# Altium integrated library con-leotronics.IntLib: 93 symbols (part 1 of 4)
Pins are listed as number, name and electrical type; pins without a type are passive.

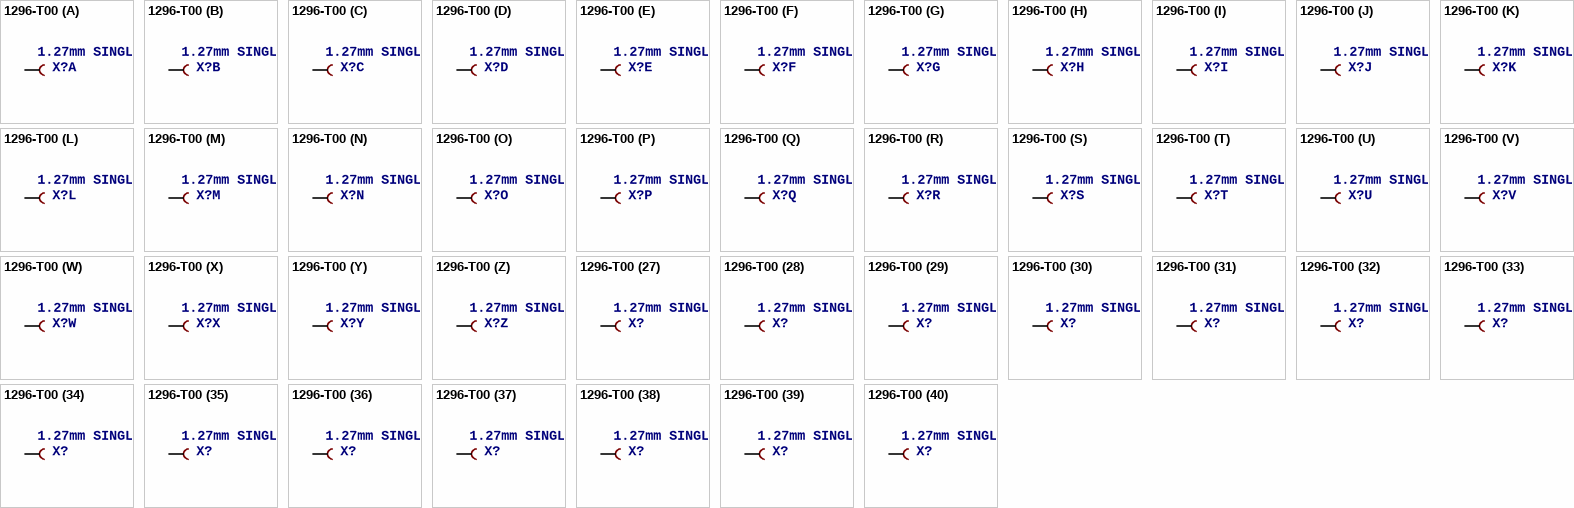
[diagram p0: symbol 1296-T00]

## 1296-T00
designator X?, comment 1.27mm SINGLE ROW FEMALE SOCKET   Source: http://www.leotronics.co.uk/Conexcon/Data%20Sheets/sec.%20A/1296ing.pdf
OC_FARNELL: unknown; OC_NEWARK: unknown
footprint 1296-100
part A pins: 1 B
part B pins: 2 B
part C pins: 3 B
part D pins: 4 B
part E pins: 5 B
part F pins: 6 B
part G pins: 7 B
part H pins: 8 B
part I pins: 9 B
part J pins: 10 B
part K pins: 11 B
part L pins: 12 B
part M pins: 13 B
part N pins: 14 B
part O pins: 15 B
part P pins: 16 B
part Q pins: 17 B
part R pins: 18 B
part S pins: 19 B
part T pins: 20 B
part U pins: 21 B
part V pins: 22 B
part W pins: 23 B
part X pins: 24 B
part Y pins: 25 B
part Z pins: 26 B
part 27 pins: 27 B
part 28 pins: 28 B
part 29 pins: 29 B
part 30 pins: 30 B
part 31 pins: 31 B
part 32 pins: 32 B
part 33 pins: 33 B
part 34 pins: 34 B
part 35 pins: 35 B
part 36 pins: 36 B
part 37 pins: 37 B
part 38 pins: 38 B
part 39 pins: 39 B
part 40 pins: 40 B
part 41 pins: 41 B
part 42 pins: 42 B
part 43 pins: 43 B
part 44 pins: 44 B
part 45 pins: 45 B
part 46 pins: 46 B
part 47 pins: 47 B
part 48 pins: 48 B
part 49 pins: 49 B
part 50 pins: 50 B
part 51 pins: 51 B
part 52 pins: 52 B
part 53 pins: 53 B
part 54 pins: 54 B
part 55 pins: 55 B
part 56 pins: 56 B
part 57 pins: 57 B
part 58 pins: 58 B
part 59 pins: 59 B
part 60 pins: 60 B
part 61 pins: 61 B
part 62 pins: 62 B
part 63 pins: 63 B
part 64 pins: 64 B
part 65 pins: 65 B
part 66 pins: 66 B
part 67 pins: 67 B
part 68 pins: 68 B
part 69 pins: 69 B
part 70 pins: 70 B
part 71 pins: 71 B
part 72 pins: 72 B
part 73 pins: 73 B
part 74 pins: 74 B
part 75 pins: 75 B
part 76 pins: 76 B
part 77 pins: 77 B
part 78 pins: 78 B
part 79 pins: 79 B
part 80 pins: 80 B
part 81 pins: 81 B
part 82 pins: 82 B
part 83 pins: 83 B
part 84 pins: 84 B
part 85 pins: 85 B
part 86 pins: 86 B
part 87 pins: 87 B
part 88 pins: 88 B
part 89 pins: 89 B
part 90 pins: 90 B
part 91 pins: 91 B
part 92 pins: 92 B
part 93 pins: 93 B
part 94 pins: 94 B
part 95 pins: 95 B
part 96 pins: 96 B
part 97 pins: 97 B
part 98 pins: 98 B
part 99 pins: 99 B
part 100 pins: 100 B

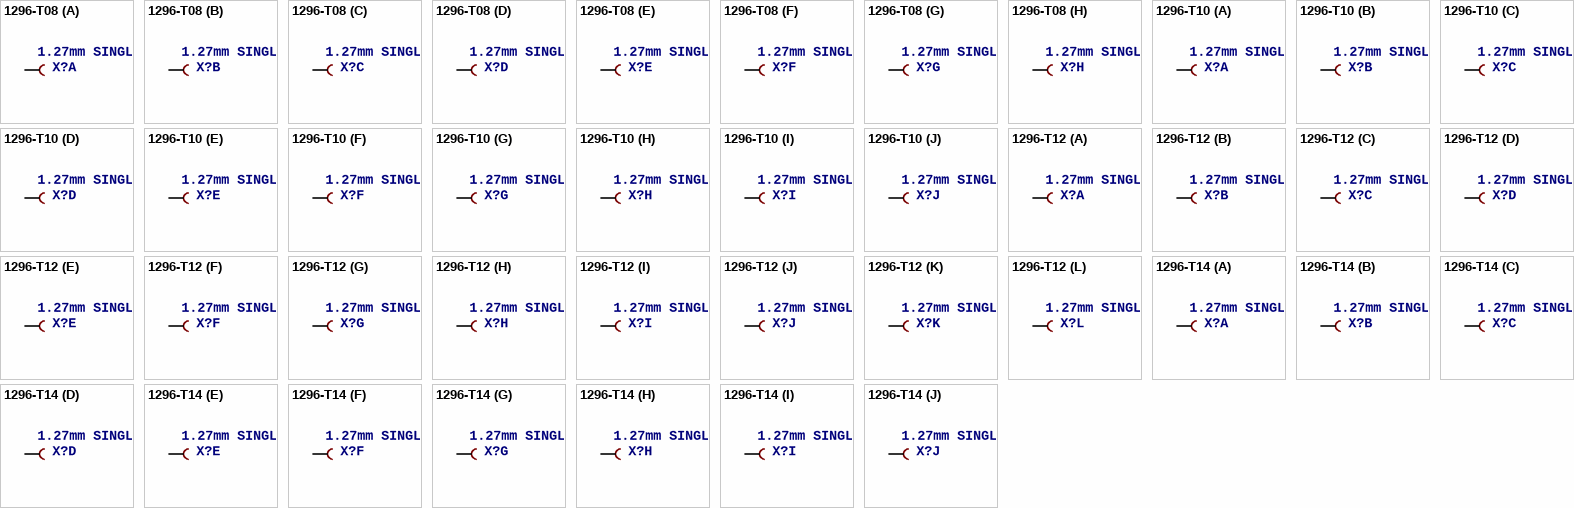
[diagram p1: symbols 1296-T08 to 1296-T14]

## 1296-T08
designator X?, comment 1.27mm SINGLE ROW FEMALE SOCKET   Source: http://www.leotronics.co.uk/Conexcon/Data%20Sheets/sec.%20A/1296ing.pdf
OC_FARNELL: unknown; OC_NEWARK: unknown
footprint 1296-08
part A pins: 1 B
part B pins: 2 B
part C pins: 3 B
part D pins: 4 B
part E pins: 5 B
part F pins: 6 B
part G pins: 7 B
part H pins: 8 B

## 1296-T10
designator X?, comment 1.27mm SINGLE ROW FEMALE SOCKET   Source: http://www.leotronics.co.uk/Conexcon/Data%20Sheets/sec.%20A/1296ing.pdf
OC_FARNELL: unknown; OC_NEWARK: unknown
footprint 1296-10
part A pins: 1 B
part B pins: 2 B
part C pins: 3 B
part D pins: 4 B
part E pins: 5 B
part F pins: 6 B
part G pins: 7 B
part H pins: 8 B
part I pins: 9 B
part J pins: 10 B

## 1296-T12
designator X?, comment 1.27mm SINGLE ROW FEMALE SOCKET   Source: http://www.leotronics.co.uk/Conexcon/Data%20Sheets/sec.%20A/1296ing.pdf
OC_FARNELL: unknown; OC_NEWARK: unknown
footprint 1296-12
part A pins: 1 B
part B pins: 2 B
part C pins: 3 B
part D pins: 4 B
part E pins: 5 B
part F pins: 6 B
part G pins: 7 B
part H pins: 8 B
part I pins: 9 B
part J pins: 10 B
part K pins: 11 B
part L pins: 12 B

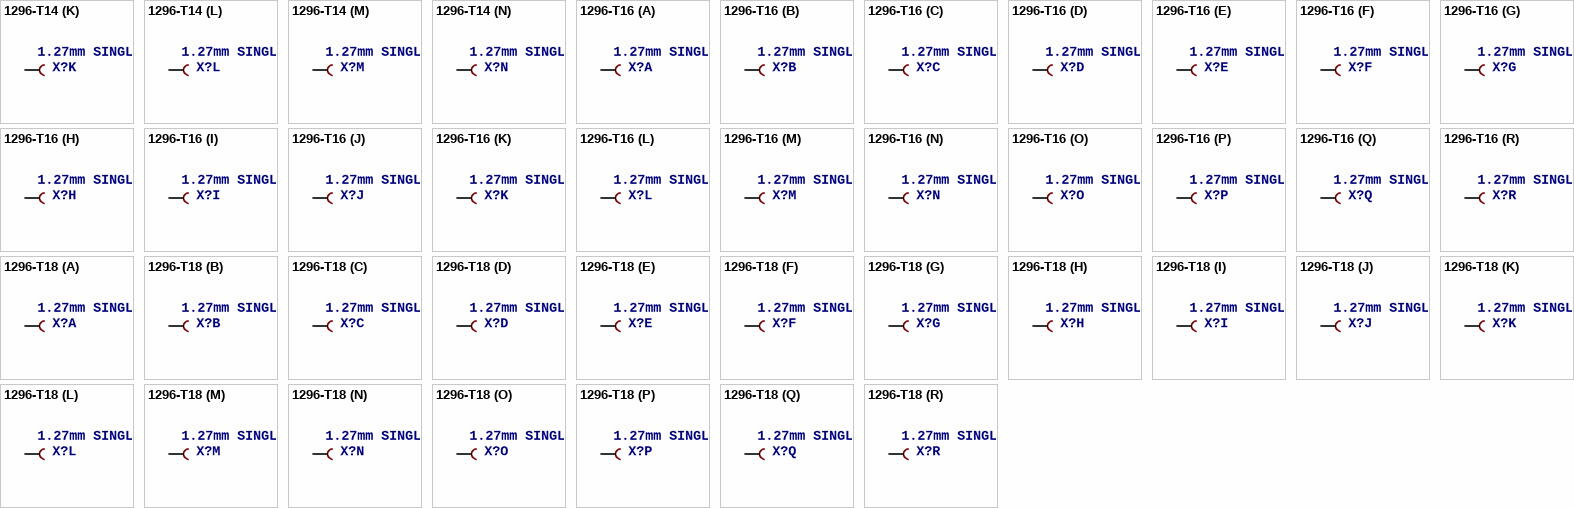
[diagram p2: symbols 1296-T14 to 1296-T18]

## 1296-T14
designator X?, comment 1.27mm SINGLE ROW FEMALE SOCKET   Source: http://www.leotronics.co.uk/Conexcon/Data%20Sheets/sec.%20A/1296ing.pdf
OC_FARNELL: unknown; OC_NEWARK: unknown
footprint 1296-14
part A pins: 1 B
part B pins: 2 B
part C pins: 3 B
part D pins: 4 B
part E pins: 5 B
part F pins: 6 B
part G pins: 7 B
part H pins: 8 B
part I pins: 9 B
part J pins: 10 B
part K pins: 11 B
part L pins: 12 B
part M pins: 13 B
part N pins: 14 B

## 1296-T16
designator X?, comment 1.27mm SINGLE ROW FEMALE SOCKET   Source: http://www.leotronics.co.uk/Conexcon/Data%20Sheets/sec.%20A/1296ing.pdf
OC_FARNELL: unknown; OC_NEWARK: unknown
footprint 1296-18
part A pins: 1 B
part B pins: 2 B
part C pins: 3 B
part D pins: 4 B
part E pins: 5 B
part F pins: 6 B
part G pins: 7 B
part H pins: 8 B
part I pins: 9 B
part J pins: 10 B
part K pins: 11 B
part L pins: 12 B
part M pins: 13 B
part N pins: 14 B
part O pins: 15 B
part P pins: 16 B
part Q pins: 17 B
part R pins: 18 B

## 1296-T18
designator X?, comment 1.27mm SINGLE ROW FEMALE SOCKET   Source: http://www.leotronics.co.uk/Conexcon/Data%20Sheets/sec.%20A/1296ing.pdf
OC_FARNELL: unknown; OC_NEWARK: unknown
footprint 1296-18
part A pins: 1 B
part B pins: 2 B
part C pins: 3 B
part D pins: 4 B
part E pins: 5 B
part F pins: 6 B
part G pins: 7 B
part H pins: 8 B
part I pins: 9 B
part J pins: 10 B
part K pins: 11 B
part L pins: 12 B
part M pins: 13 B
part N pins: 14 B
part O pins: 15 B
part P pins: 16 B
part Q pins: 17 B
part R pins: 18 B

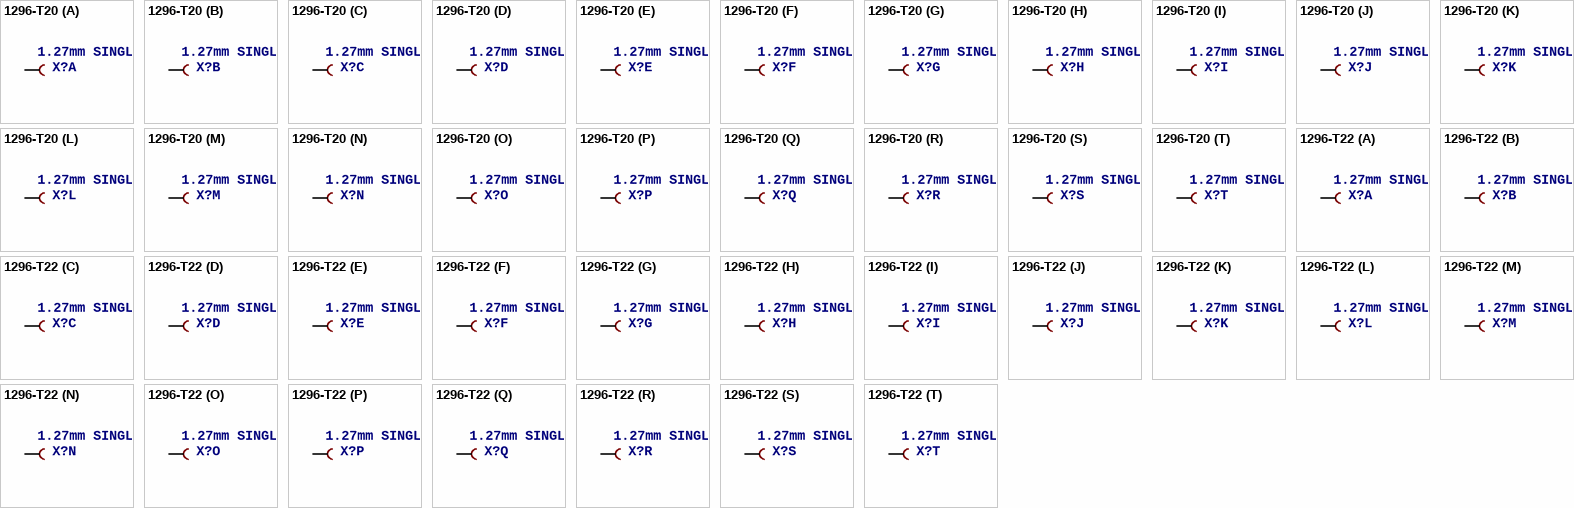
[diagram p3: symbols 1296-T20 to 1296-T22]

## 1296-T20
designator X?, comment 1.27mm SINGLE ROW FEMALE SOCKET   Source: http://www.leotronics.co.uk/Conexcon/Data%20Sheets/sec.%20A/1296ing.pdf
OC_FARNELL: unknown; OC_NEWARK: unknown
footprint 1296-20
part A pins: 1 B
part B pins: 2 B
part C pins: 3 B
part D pins: 4 B
part E pins: 5 B
part F pins: 6 B
part G pins: 7 B
part H pins: 8 B
part I pins: 9 B
part J pins: 10 B
part K pins: 11 B
part L pins: 12 B
part M pins: 13 B
part N pins: 14 B
part O pins: 15 B
part P pins: 16 B
part Q pins: 17 B
part R pins: 18 B
part S pins: 19 B
part T pins: 20 B

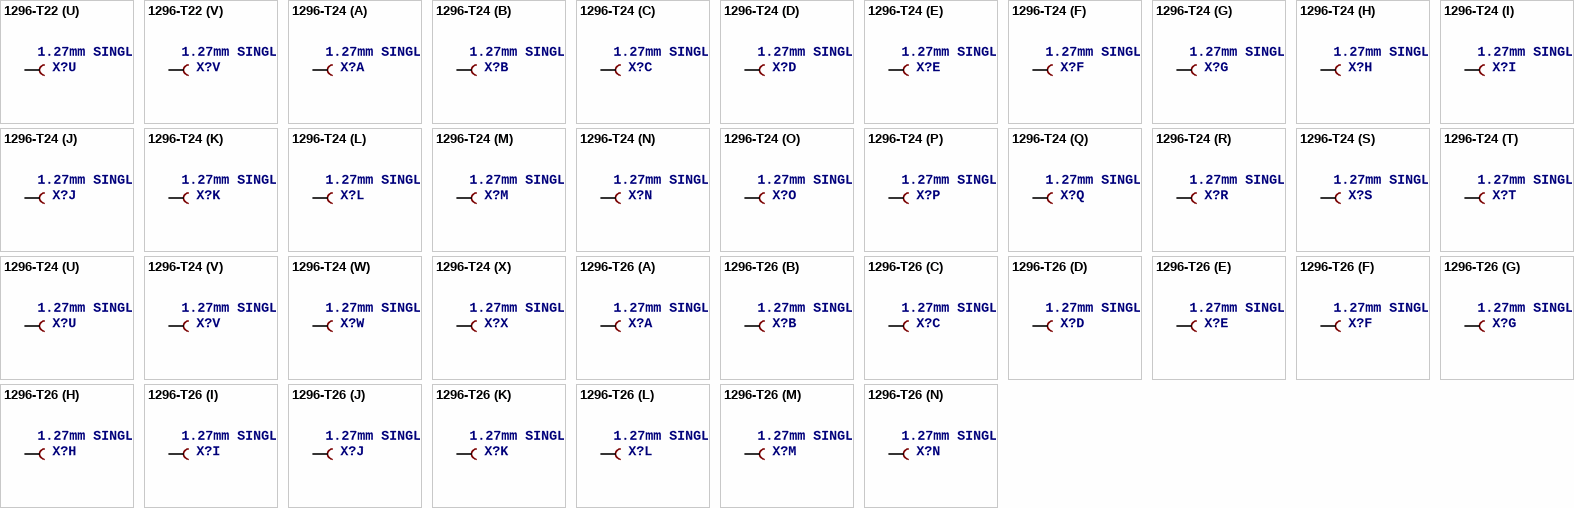
[diagram p4: symbols 1296-T22 to 1296-T26]

## 1296-T22
designator X?, comment 1.27mm SINGLE ROW FEMALE SOCKET   Source: http://www.leotronics.co.uk/Conexcon/Data%20Sheets/sec.%20A/1296ing.pdf
OC_FARNELL: unknown; OC_NEWARK: unknown
footprint 1296-22
part A pins: 1 B
part B pins: 2 B
part C pins: 3 B
part D pins: 4 B
part E pins: 5 B
part F pins: 6 B
part G pins: 7 B
part H pins: 8 B
part I pins: 9 B
part J pins: 10 B
part K pins: 11 B
part L pins: 12 B
part M pins: 13 B
part N pins: 14 B
part O pins: 15 B
part P pins: 16 B
part Q pins: 17 B
part R pins: 18 B
part S pins: 19 B
part T pins: 20 B
part U pins: 21 B
part V pins: 22 B

## 1296-T24
designator X?, comment 1.27mm SINGLE ROW FEMALE SOCKET   Source: http://www.leotronics.co.uk/Conexcon/Data%20Sheets/sec.%20A/1296ing.pdf
OC_FARNELL: unknown; OC_NEWARK: unknown
footprint 1296-24
part A pins: 1 B
part B pins: 2 B
part C pins: 3 B
part D pins: 4 B
part E pins: 5 B
part F pins: 6 B
part G pins: 7 B
part H pins: 8 B
part I pins: 9 B
part J pins: 10 B
part K pins: 11 B
part L pins: 12 B
part M pins: 13 B
part N pins: 14 B
part O pins: 15 B
part P pins: 16 B
part Q pins: 17 B
part R pins: 18 B
part S pins: 19 B
part T pins: 20 B
part U pins: 21 B
part V pins: 22 B
part W pins: 23 B
part X pins: 24 B

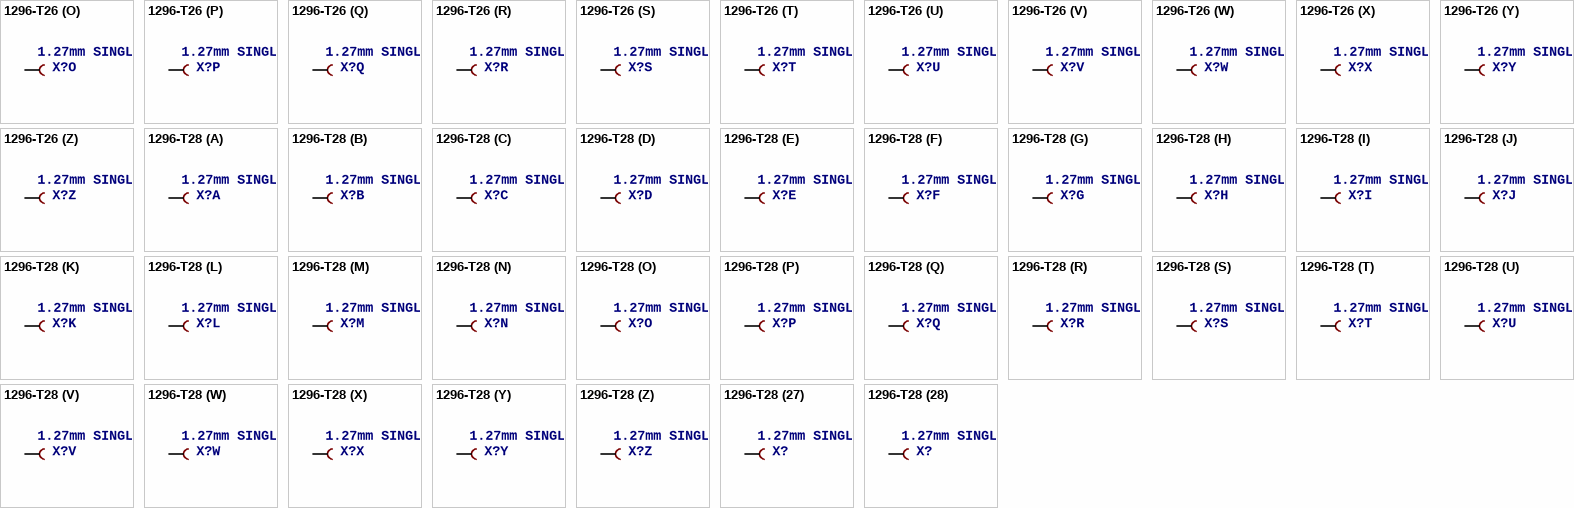
[diagram p5: symbols 1296-T26 to 1296-T28]

## 1296-T26
designator X?, comment 1.27mm SINGLE ROW FEMALE SOCKET   Source: http://www.leotronics.co.uk/Conexcon/Data%20Sheets/sec.%20A/1296ing.pdf
OC_FARNELL: unknown; OC_NEWARK: unknown
footprint 1296-26
part A pins: 1 B
part B pins: 2 B
part C pins: 3 B
part D pins: 4 B
part E pins: 5 B
part F pins: 6 B
part G pins: 7 B
part H pins: 8 B
part I pins: 9 B
part J pins: 10 B
part K pins: 11 B
part L pins: 12 B
part M pins: 13 B
part N pins: 14 B
part O pins: 15 B
part P pins: 16 B
part Q pins: 17 B
part R pins: 18 B
part S pins: 19 B
part T pins: 20 B
part U pins: 21 B
part V pins: 22 B
part W pins: 23 B
part X pins: 24 B
part Y pins: 25 B
part Z pins: 26 B

## 1296-T28
designator X?, comment 1.27mm SINGLE ROW FEMALE SOCKET   Source: http://www.leotronics.co.uk/Conexcon/Data%20Sheets/sec.%20A/1296ing.pdf
OC_FARNELL: unknown; OC_NEWARK: unknown
footprint 1296-28
part A pins: 1 B
part B pins: 2 B
part C pins: 3 B
part D pins: 4 B
part E pins: 5 B
part F pins: 6 B
part G pins: 7 B
part H pins: 8 B
part I pins: 9 B
part J pins: 10 B
part K pins: 11 B
part L pins: 12 B
part M pins: 13 B
part N pins: 14 B
part O pins: 15 B
part P pins: 16 B
part Q pins: 17 B
part R pins: 18 B
part S pins: 19 B
part T pins: 20 B
part U pins: 21 B
part V pins: 22 B
part W pins: 23 B
part X pins: 24 B
part Y pins: 25 B
part Z pins: 26 B
part 27 pins: 27 B
part 28 pins: 28 B

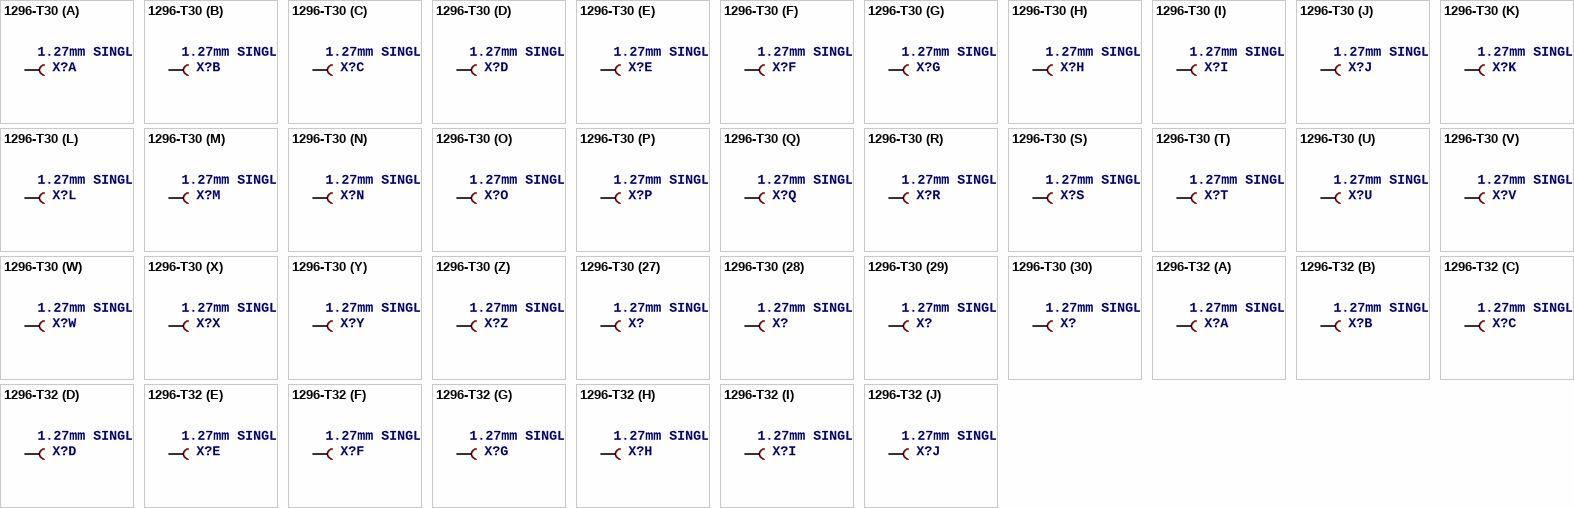
[diagram p6: symbols 1296-T30 to 1296-T32]

## 1296-T30
designator X?, comment 1.27mm SINGLE ROW FEMALE SOCKET   Source: http://www.leotronics.co.uk/Conexcon/Data%20Sheets/sec.%20A/1296ing.pdf
OC_FARNELL: unknown; OC_NEWARK: unknown
footprint 1296-30
part A pins: 1 B
part B pins: 2 B
part C pins: 3 B
part D pins: 4 B
part E pins: 5 B
part F pins: 6 B
part G pins: 7 B
part H pins: 8 B
part I pins: 9 B
part J pins: 10 B
part K pins: 11 B
part L pins: 12 B
part M pins: 13 B
part N pins: 14 B
part O pins: 15 B
part P pins: 16 B
part Q pins: 17 B
part R pins: 18 B
part S pins: 19 B
part T pins: 20 B
part U pins: 21 B
part V pins: 22 B
part W pins: 23 B
part X pins: 24 B
part Y pins: 25 B
part Z pins: 26 B
part 27 pins: 27 B
part 28 pins: 28 B
part 29 pins: 29 B
part 30 pins: 30 B

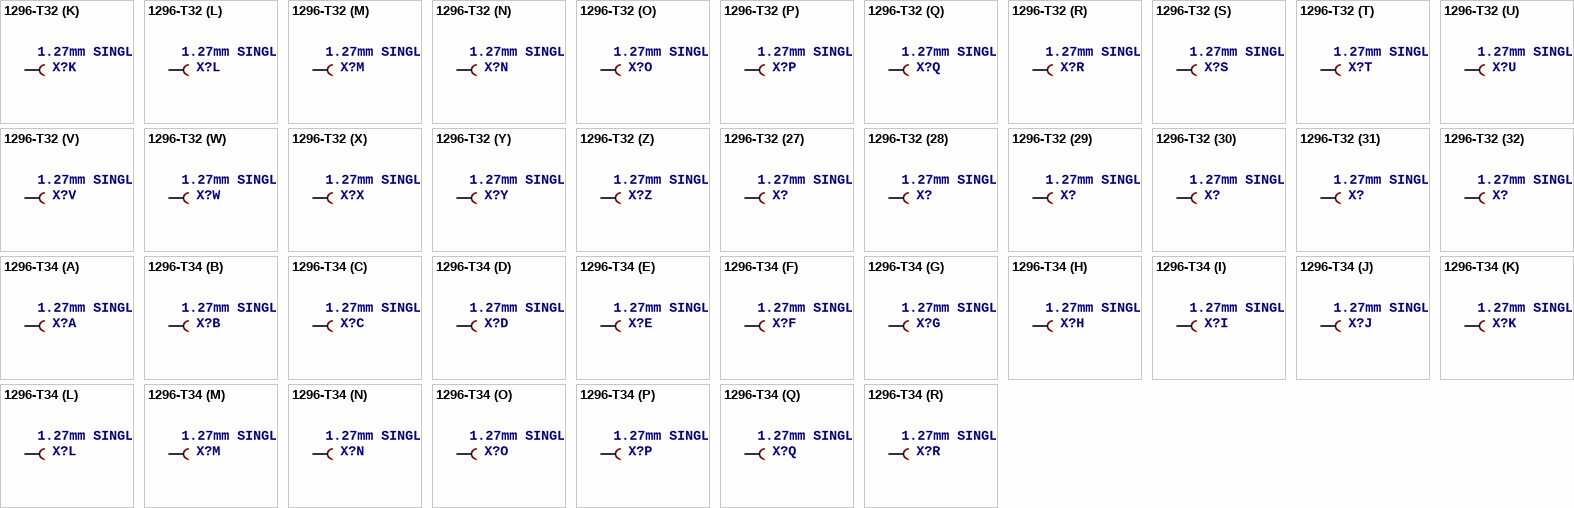
[diagram p7: symbols 1296-T32 to 1296-T34]

## 1296-T32
designator X?, comment 1.27mm SINGLE ROW FEMALE SOCKET   Source: http://www.leotronics.co.uk/Conexcon/Data%20Sheets/sec.%20A/1296ing.pdf
OC_FARNELL: unknown; OC_NEWARK: unknown
footprint 1296-32
part A pins: 1 B
part B pins: 2 B
part C pins: 3 B
part D pins: 4 B
part E pins: 5 B
part F pins: 6 B
part G pins: 7 B
part H pins: 8 B
part I pins: 9 B
part J pins: 10 B
part K pins: 11 B
part L pins: 12 B
part M pins: 13 B
part N pins: 14 B
part O pins: 15 B
part P pins: 16 B
part Q pins: 17 B
part R pins: 18 B
part S pins: 19 B
part T pins: 20 B
part U pins: 21 B
part V pins: 22 B
part W pins: 23 B
part X pins: 24 B
part Y pins: 25 B
part Z pins: 26 B
part 27 pins: 27 B
part 28 pins: 28 B
part 29 pins: 29 B
part 30 pins: 30 B
part 31 pins: 31 B
part 32 pins: 32 B

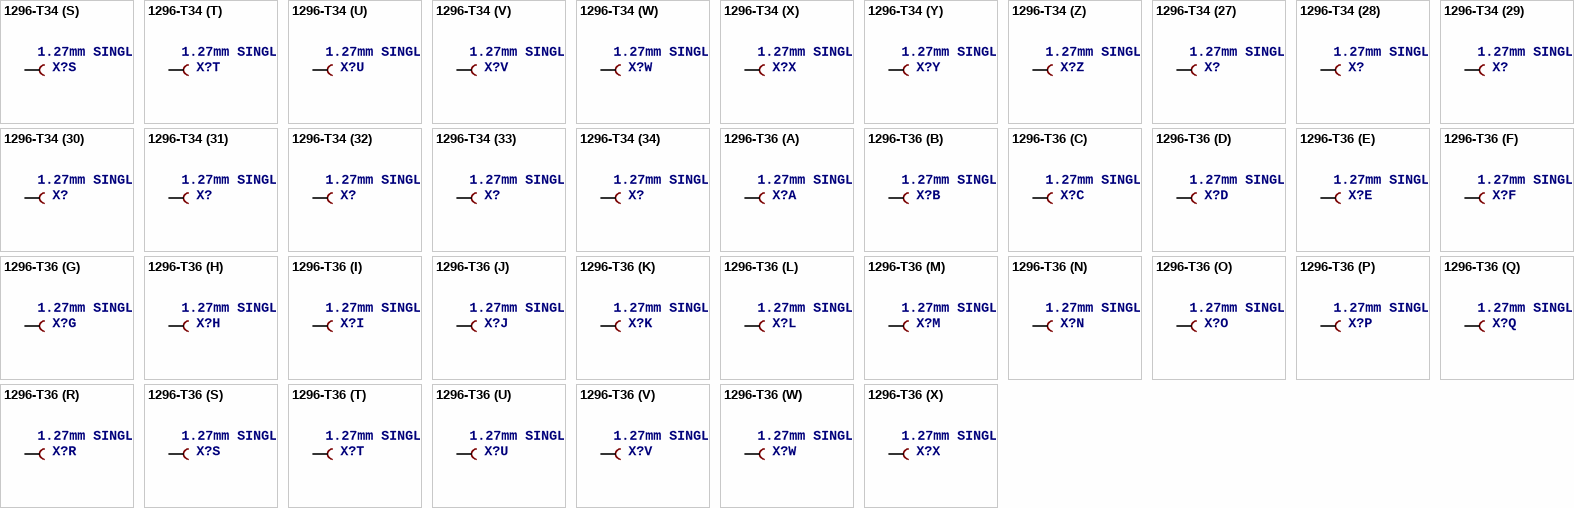
[diagram p8: symbols 1296-T34 to 1296-T36]

## 1296-T34
designator X?, comment 1.27mm SINGLE ROW FEMALE SOCKET   Source: http://www.leotronics.co.uk/Conexcon/Data%20Sheets/sec.%20A/1296ing.pdf
OC_FARNELL: unknown; OC_NEWARK: unknown
footprint 1296-34
part A pins: 1 B
part B pins: 2 B
part C pins: 3 B
part D pins: 4 B
part E pins: 5 B
part F pins: 6 B
part G pins: 7 B
part H pins: 8 B
part I pins: 9 B
part J pins: 10 B
part K pins: 11 B
part L pins: 12 B
part M pins: 13 B
part N pins: 14 B
part O pins: 15 B
part P pins: 16 B
part Q pins: 17 B
part R pins: 18 B
part S pins: 19 B
part T pins: 20 B
part U pins: 21 B
part V pins: 22 B
part W pins: 23 B
part X pins: 24 B
part Y pins: 25 B
part Z pins: 26 B
part 27 pins: 27 B
part 28 pins: 28 B
part 29 pins: 29 B
part 30 pins: 30 B
part 31 pins: 31 B
part 32 pins: 32 B
part 33 pins: 33 B
part 34 pins: 34 B

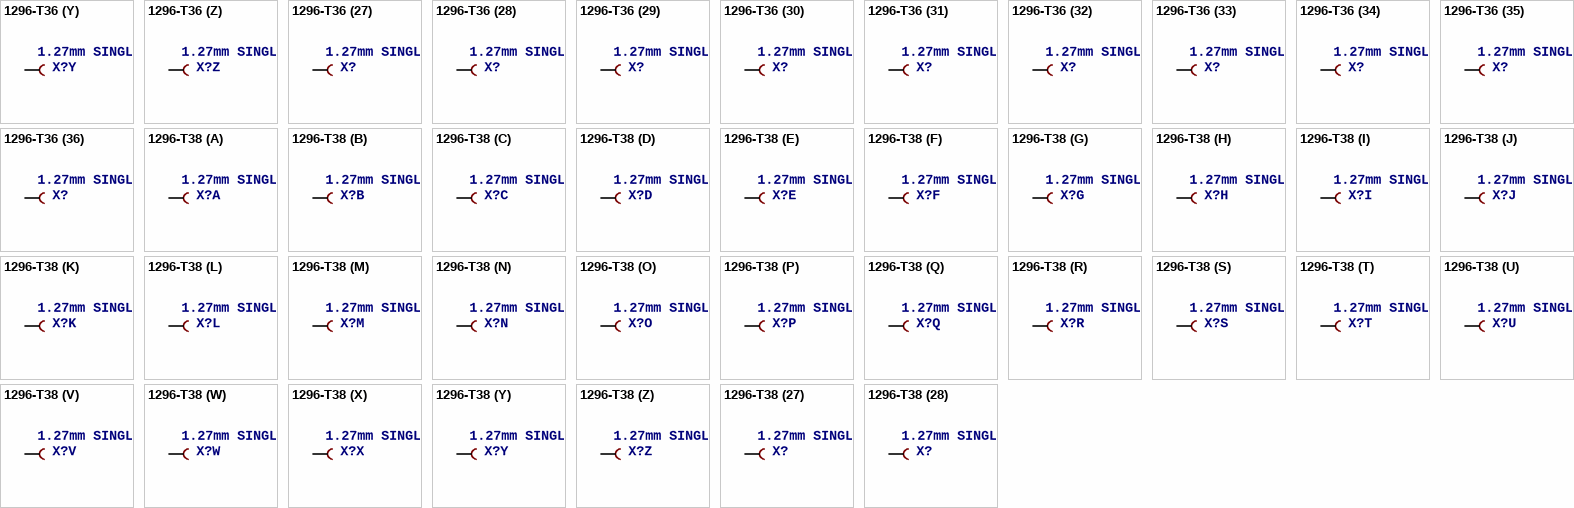
[diagram p9: symbols 1296-T36 to 1296-T38]

## 1296-T36
designator X?, comment 1.27mm SINGLE ROW FEMALE SOCKET   Source: http://www.leotronics.co.uk/Conexcon/Data%20Sheets/sec.%20A/1296ing.pdf
OC_FARNELL: unknown; OC_NEWARK: unknown
footprint 1296-36
part A pins: 1 B
part B pins: 2 B
part C pins: 3 B
part D pins: 4 B
part E pins: 5 B
part F pins: 6 B
part G pins: 7 B
part H pins: 8 B
part I pins: 9 B
part J pins: 10 B
part K pins: 11 B
part L pins: 12 B
part M pins: 13 B
part N pins: 14 B
part O pins: 15 B
part P pins: 16 B
part Q pins: 17 B
part R pins: 18 B
part S pins: 19 B
part T pins: 20 B
part U pins: 21 B
part V pins: 22 B
part W pins: 23 B
part X pins: 24 B
part Y pins: 25 B
part Z pins: 26 B
part 27 pins: 27 B
part 28 pins: 28 B
part 29 pins: 29 B
part 30 pins: 30 B
part 31 pins: 31 B
part 32 pins: 32 B
part 33 pins: 33 B
part 34 pins: 34 B
part 35 pins: 35 B
part 36 pins: 36 B

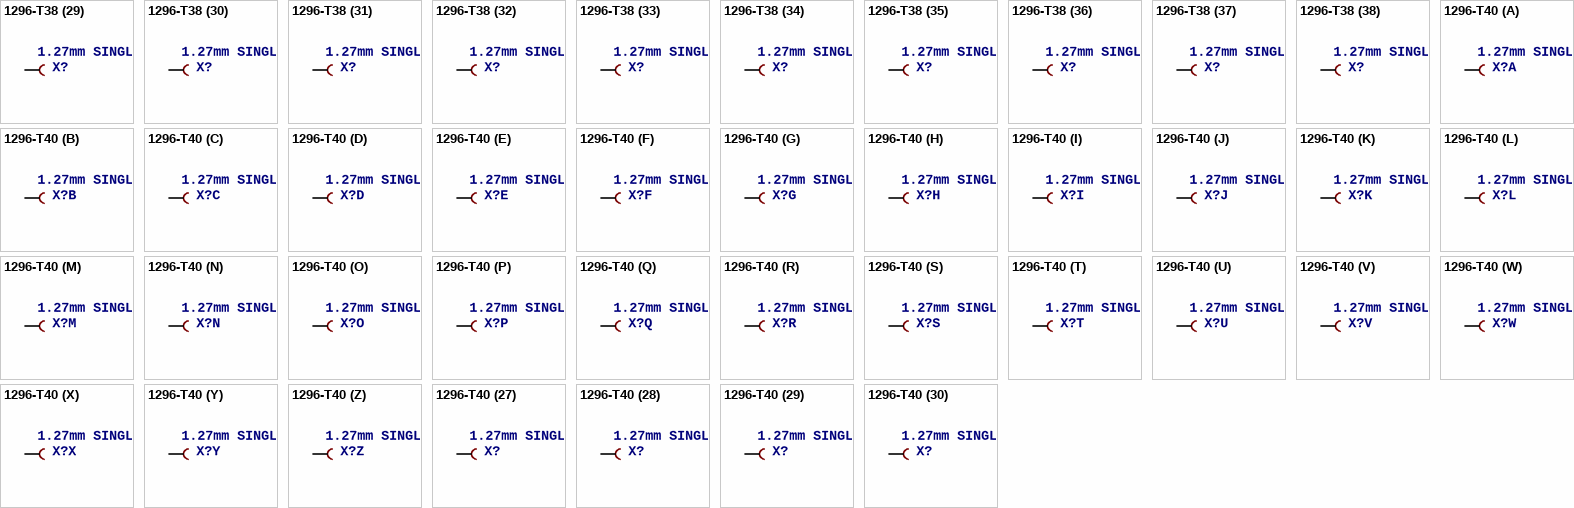
[diagram p10: symbols 1296-T38 to 1296-T40]

## 1296-T38
designator X?, comment 1.27mm SINGLE ROW FEMALE SOCKET   Source: http://www.leotronics.co.uk/Conexcon/Data%20Sheets/sec.%20A/1296ing.pdf
OC_FARNELL: unknown; OC_NEWARK: unknown
footprint 1296-38
part A pins: 1 B
part B pins: 2 B
part C pins: 3 B
part D pins: 4 B
part E pins: 5 B
part F pins: 6 B
part G pins: 7 B
part H pins: 8 B
part I pins: 9 B
part J pins: 10 B
part K pins: 11 B
part L pins: 12 B
part M pins: 13 B
part N pins: 14 B
part O pins: 15 B
part P pins: 16 B
part Q pins: 17 B
part R pins: 18 B
part S pins: 19 B
part T pins: 20 B
part U pins: 21 B
part V pins: 22 B
part W pins: 23 B
part X pins: 24 B
part Y pins: 25 B
part Z pins: 26 B
part 27 pins: 27 B
part 28 pins: 28 B
part 29 pins: 29 B
part 30 pins: 30 B
part 31 pins: 31 B
part 32 pins: 32 B
part 33 pins: 33 B
part 34 pins: 34 B
part 35 pins: 35 B
part 36 pins: 36 B
part 37 pins: 37 B
part 38 pins: 38 B

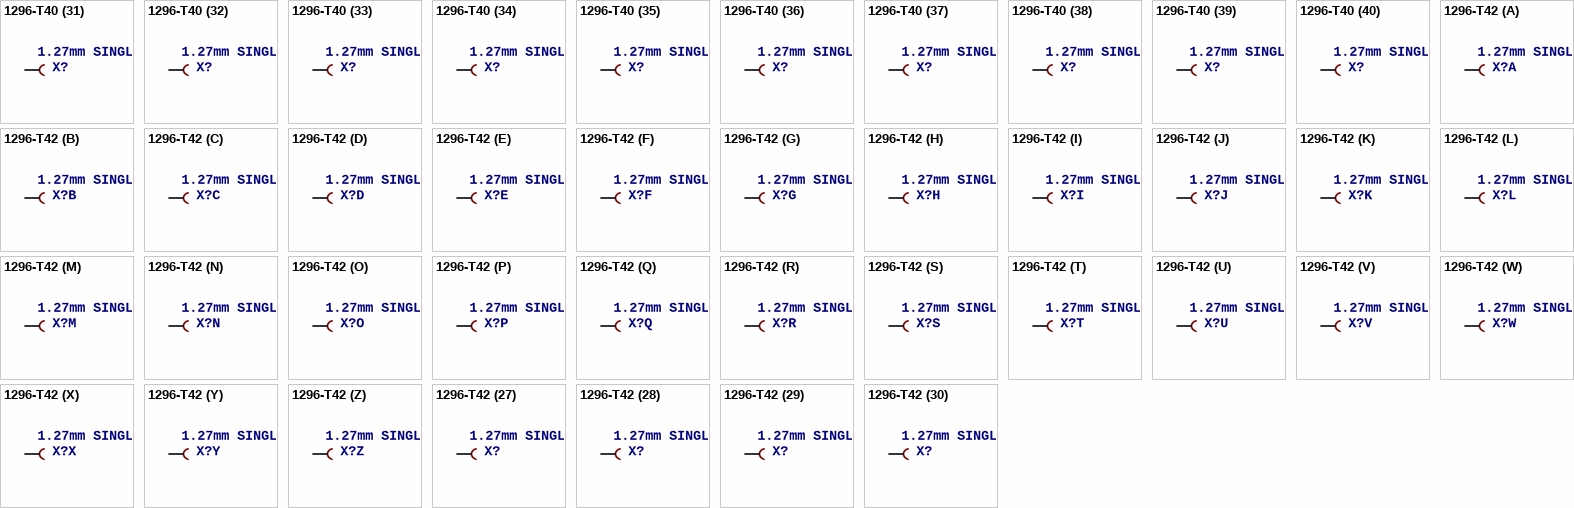
[diagram p11: symbols 1296-T40 to 1296-T42]

## 1296-T40
designator X?, comment 1.27mm SINGLE ROW FEMALE SOCKET   Source: http://www.leotronics.co.uk/Conexcon/Data%20Sheets/sec.%20A/1296ing.pdf
OC_FARNELL: unknown; OC_NEWARK: unknown
footprint 1296-40
part A pins: 1 B
part B pins: 2 B
part C pins: 3 B
part D pins: 4 B
part E pins: 5 B
part F pins: 6 B
part G pins: 7 B
part H pins: 8 B
part I pins: 9 B
part J pins: 10 B
part K pins: 11 B
part L pins: 12 B
part M pins: 13 B
part N pins: 14 B
part O pins: 15 B
part P pins: 16 B
part Q pins: 17 B
part R pins: 18 B
part S pins: 19 B
part T pins: 20 B
part U pins: 21 B
part V pins: 22 B
part W pins: 23 B
part X pins: 24 B
part Y pins: 25 B
part Z pins: 26 B
part 27 pins: 27 B
part 28 pins: 28 B
part 29 pins: 29 B
part 30 pins: 30 B
part 31 pins: 31 B
part 32 pins: 32 B
part 33 pins: 33 B
part 34 pins: 34 B
part 35 pins: 35 B
part 36 pins: 36 B
part 37 pins: 37 B
part 38 pins: 38 B
part 39 pins: 39 B
part 40 pins: 40 B

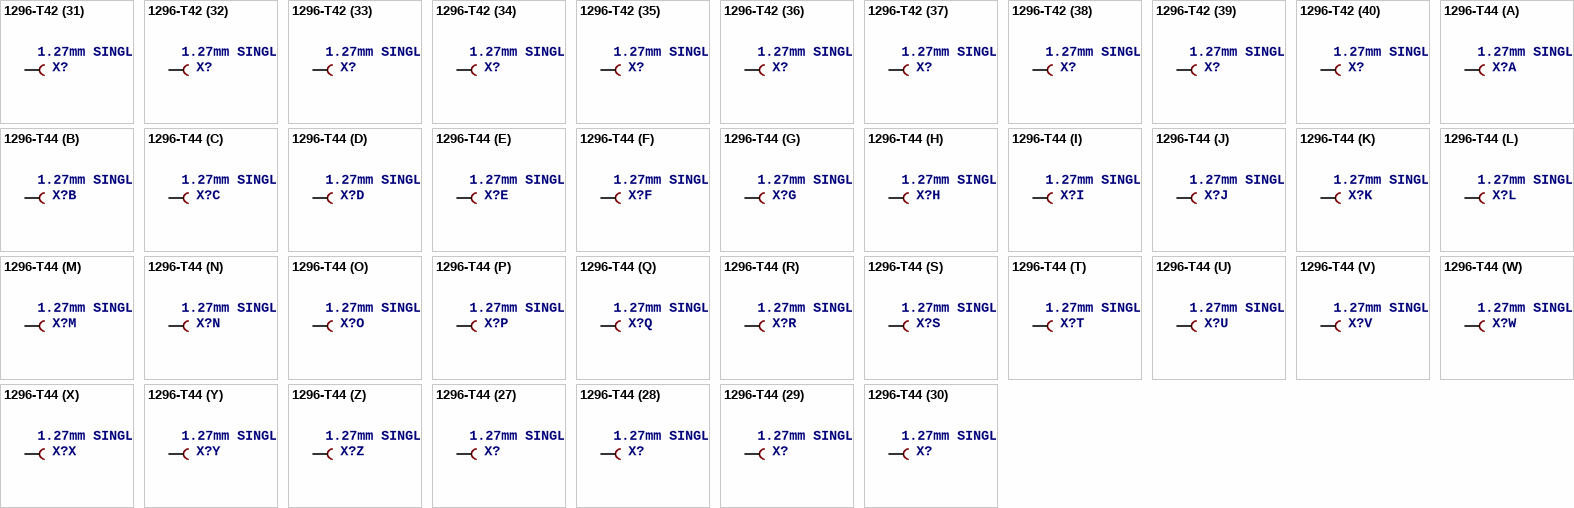
[diagram p12: symbols 1296-T42 to 1296-T44]

## 1296-T42
designator X?, comment 1.27mm SINGLE ROW FEMALE SOCKET   Source: http://www.leotronics.co.uk/Conexcon/Data%20Sheets/sec.%20A/1296ing.pdf
OC_FARNELL: unknown; OC_NEWARK: unknown
footprint 1296-42
part A pins: 1 B
part B pins: 2 B
part C pins: 3 B
part D pins: 4 B
part E pins: 5 B
part F pins: 6 B
part G pins: 7 B
part H pins: 8 B
part I pins: 9 B
part J pins: 10 B
part K pins: 11 B
part L pins: 12 B
part M pins: 13 B
part N pins: 14 B
part O pins: 15 B
part P pins: 16 B
part Q pins: 17 B
part R pins: 18 B
part S pins: 19 B
part T pins: 20 B
part U pins: 21 B
part V pins: 22 B
part W pins: 23 B
part X pins: 24 B
part Y pins: 25 B
part Z pins: 26 B
part 27 pins: 27 B
part 28 pins: 28 B
part 29 pins: 29 B
part 30 pins: 30 B
part 31 pins: 31 B
part 32 pins: 32 B
part 33 pins: 33 B
part 34 pins: 34 B
part 35 pins: 35 B
part 36 pins: 36 B
part 37 pins: 37 B
part 38 pins: 38 B
part 39 pins: 39 B
part 40 pins: 40 B
part 41 pins: 41 B
part 42 pins: 42 B

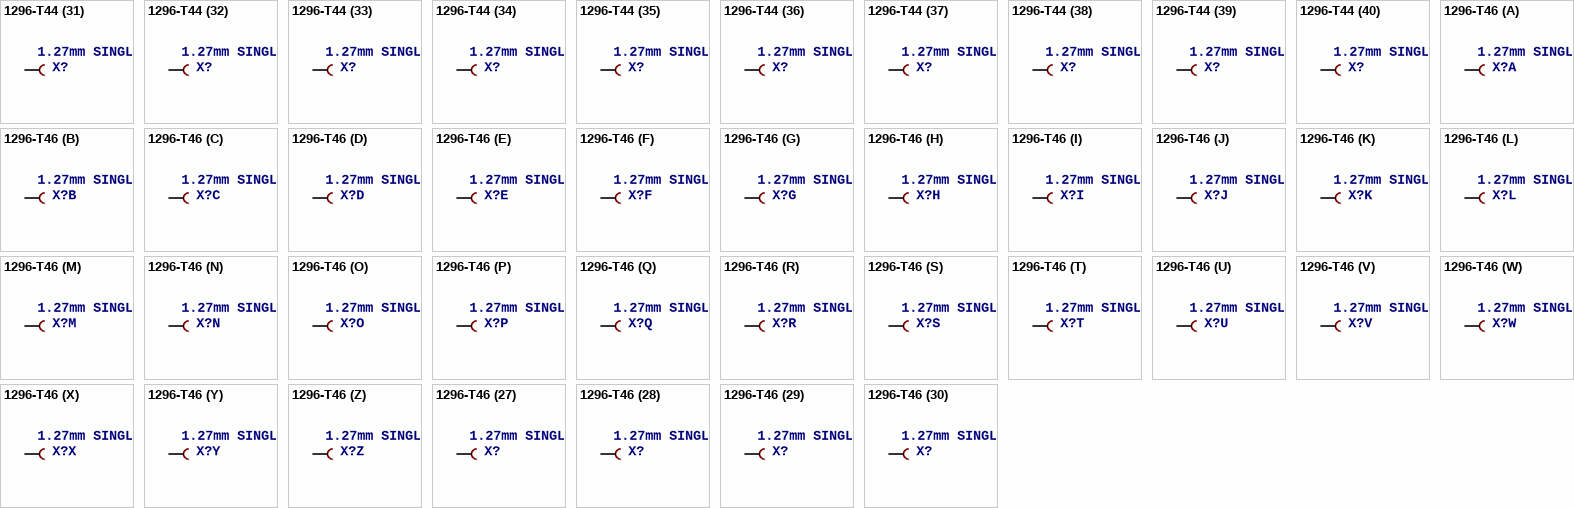
[diagram p13: symbols 1296-T44 to 1296-T46]

## 1296-T44
designator X?, comment 1.27mm SINGLE ROW FEMALE SOCKET   Source: http://www.leotronics.co.uk/Conexcon/Data%20Sheets/sec.%20A/1296ing.pdf
OC_FARNELL: unknown; OC_NEWARK: unknown
footprint 1296-44
part A pins: 1 B
part B pins: 2 B
part C pins: 3 B
part D pins: 4 B
part E pins: 5 B
part F pins: 6 B
part G pins: 7 B
part H pins: 8 B
part I pins: 9 B
part J pins: 10 B
part K pins: 11 B
part L pins: 12 B
part M pins: 13 B
part N pins: 14 B
part O pins: 15 B
part P pins: 16 B
part Q pins: 17 B
part R pins: 18 B
part S pins: 19 B
part T pins: 20 B
part U pins: 21 B
part V pins: 22 B
part W pins: 23 B
part X pins: 24 B
part Y pins: 25 B
part Z pins: 26 B
part 27 pins: 27 B
part 28 pins: 28 B
part 29 pins: 29 B
part 30 pins: 30 B
part 31 pins: 31 B
part 32 pins: 32 B
part 33 pins: 33 B
part 34 pins: 34 B
part 35 pins: 35 B
part 36 pins: 36 B
part 37 pins: 37 B
part 38 pins: 38 B
part 39 pins: 39 B
part 40 pins: 40 B
part 41 pins: 41 B
part 42 pins: 42 B
part 43 pins: 43 B
part 44 pins: 44 B

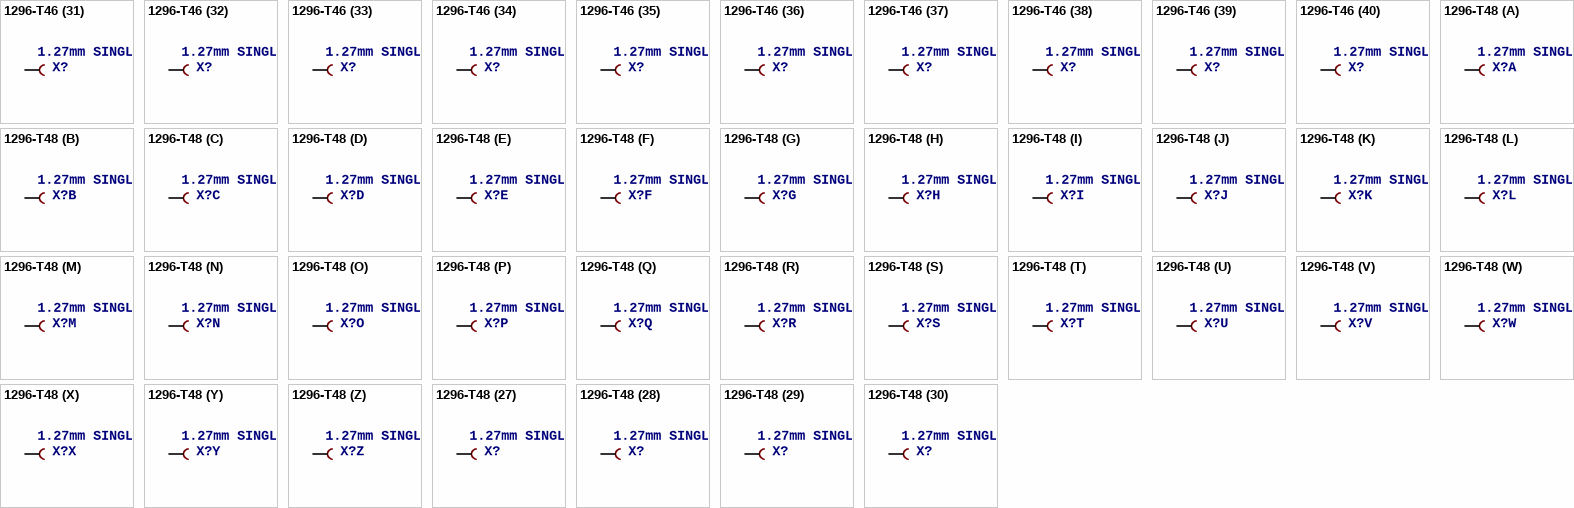
[diagram p14: symbols 1296-T46 to 1296-T48]

## 1296-T46
designator X?, comment 1.27mm SINGLE ROW FEMALE SOCKET   Source: http://www.leotronics.co.uk/Conexcon/Data%20Sheets/sec.%20A/1296ing.pdf
OC_FARNELL: unknown; OC_NEWARK: unknown
footprint 1296-46
part A pins: 1 B
part B pins: 2 B
part C pins: 3 B
part D pins: 4 B
part E pins: 5 B
part F pins: 6 B
part G pins: 7 B
part H pins: 8 B
part I pins: 9 B
part J pins: 10 B
part K pins: 11 B
part L pins: 12 B
part M pins: 13 B
part N pins: 14 B
part O pins: 15 B
part P pins: 16 B
part Q pins: 17 B
part R pins: 18 B
part S pins: 19 B
part T pins: 20 B
part U pins: 21 B
part V pins: 22 B
part W pins: 23 B
part X pins: 24 B
part Y pins: 25 B
part Z pins: 26 B
part 27 pins: 27 B
part 28 pins: 28 B
part 29 pins: 29 B
part 30 pins: 30 B
part 31 pins: 31 B
part 32 pins: 32 B
part 33 pins: 33 B
part 34 pins: 34 B
part 35 pins: 35 B
part 36 pins: 36 B
part 37 pins: 37 B
part 38 pins: 38 B
part 39 pins: 39 B
part 40 pins: 40 B
part 41 pins: 41 B
part 42 pins: 42 B
part 43 pins: 43 B
part 44 pins: 44 B
part 45 pins: 45 B
part 46 pins: 46 B

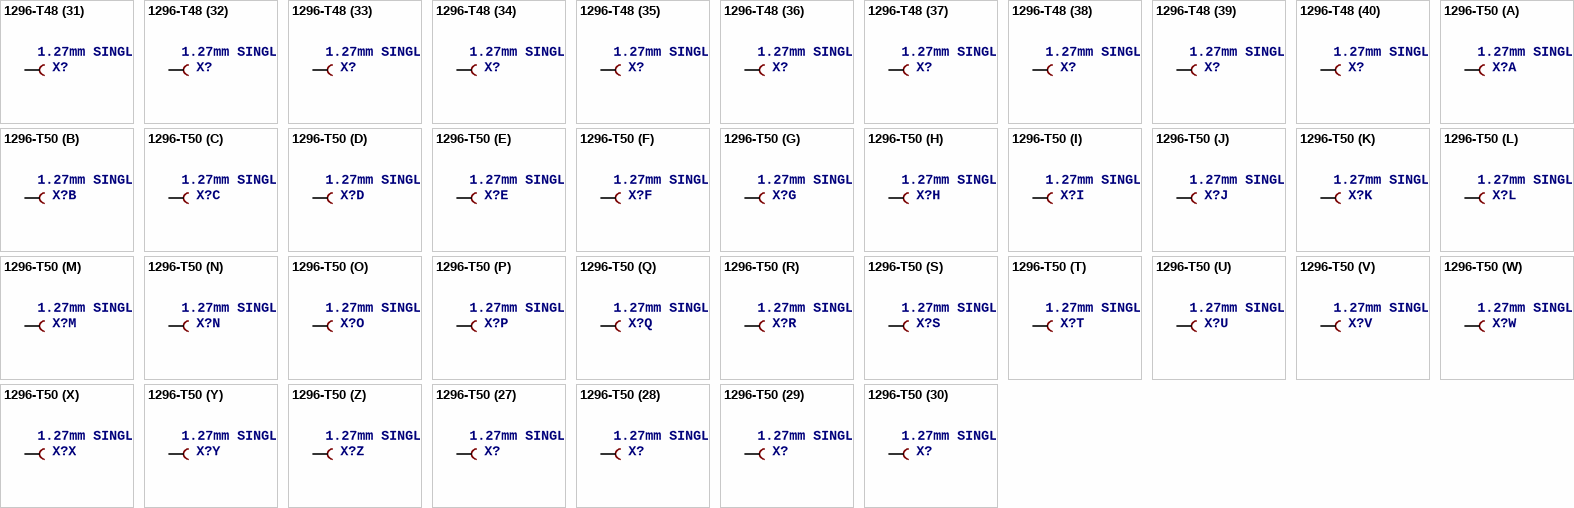
[diagram p15: symbols 1296-T48 to 1296-T50]

## 1296-T48
designator X?, comment 1.27mm SINGLE ROW FEMALE SOCKET   Source: http://www.leotronics.co.uk/Conexcon/Data%20Sheets/sec.%20A/1296ing.pdf
OC_FARNELL: unknown; OC_NEWARK: unknown
footprint 1296-48
part A pins: 1 B
part B pins: 2 B
part C pins: 3 B
part D pins: 4 B
part E pins: 5 B
part F pins: 6 B
part G pins: 7 B
part H pins: 8 B
part I pins: 9 B
part J pins: 10 B
part K pins: 11 B
part L pins: 12 B
part M pins: 13 B
part N pins: 14 B
part O pins: 15 B
part P pins: 16 B
part Q pins: 17 B
part R pins: 18 B
part S pins: 19 B
part T pins: 20 B
part U pins: 21 B
part V pins: 22 B
part W pins: 23 B
part X pins: 24 B
part Y pins: 25 B
part Z pins: 26 B
part 27 pins: 27 B
part 28 pins: 28 B
part 29 pins: 29 B
part 30 pins: 30 B
part 31 pins: 31 B
part 32 pins: 32 B
part 33 pins: 33 B
part 34 pins: 34 B
part 35 pins: 35 B
part 36 pins: 36 B
part 37 pins: 37 B
part 38 pins: 38 B
part 39 pins: 39 B
part 40 pins: 40 B
part 41 pins: 41 B
part 42 pins: 42 B
part 43 pins: 43 B
part 44 pins: 44 B
part 45 pins: 45 B
part 46 pins: 46 B
part 47 pins: 47 B
part 48 pins: 48 B

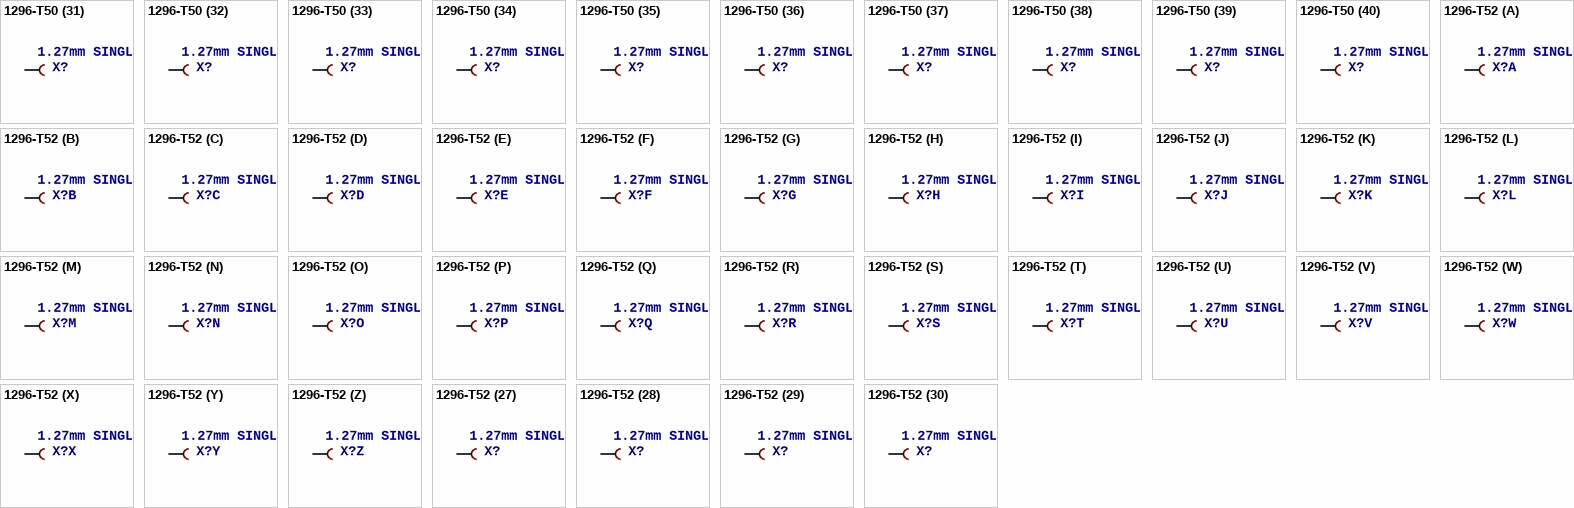
[diagram p16: symbols 1296-T50 to 1296-T52]

## 1296-T50
designator X?, comment 1.27mm SINGLE ROW FEMALE SOCKET   Source: http://www.leotronics.co.uk/Conexcon/Data%20Sheets/sec.%20A/1296ing.pdf
OC_FARNELL: unknown; OC_NEWARK: unknown
footprint 1296-50
part A pins: 1 B
part B pins: 2 B
part C pins: 3 B
part D pins: 4 B
part E pins: 5 B
part F pins: 6 B
part G pins: 7 B
part H pins: 8 B
part I pins: 9 B
part J pins: 10 B
part K pins: 11 B
part L pins: 12 B
part M pins: 13 B
part N pins: 14 B
part O pins: 15 B
part P pins: 16 B
part Q pins: 17 B
part R pins: 18 B
part S pins: 19 B
part T pins: 20 B
part U pins: 21 B
part V pins: 22 B
part W pins: 23 B
part X pins: 24 B
part Y pins: 25 B
part Z pins: 26 B
part 27 pins: 27 B
part 28 pins: 28 B
part 29 pins: 29 B
part 30 pins: 30 B
part 31 pins: 31 B
part 32 pins: 32 B
part 33 pins: 33 B
part 34 pins: 34 B
part 35 pins: 35 B
part 36 pins: 36 B
part 37 pins: 37 B
part 38 pins: 38 B
part 39 pins: 39 B
part 40 pins: 40 B
part 41 pins: 41 B
part 42 pins: 42 B
part 43 pins: 43 B
part 44 pins: 44 B
part 45 pins: 45 B
part 46 pins: 46 B
part 47 pins: 47 B
part 48 pins: 48 B
part 49 pins: 49 B
part 50 pins: 50 B

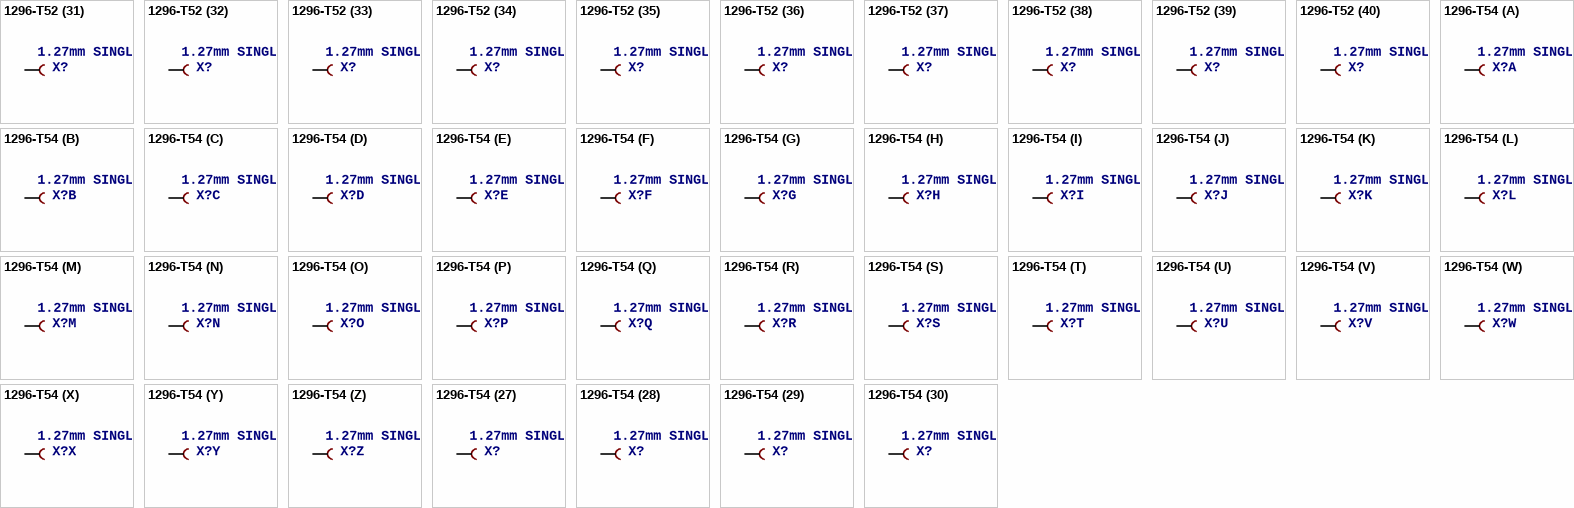
[diagram p17: symbols 1296-T52 to 1296-T54]

## 1296-T52
designator X?, comment 1.27mm SINGLE ROW FEMALE SOCKET   Source: http://www.leotronics.co.uk/Conexcon/Data%20Sheets/sec.%20A/1296ing.pdf
OC_FARNELL: unknown; OC_NEWARK: unknown
footprint 1296-52
part A pins: 1 B
part B pins: 2 B
part C pins: 3 B
part D pins: 4 B
part E pins: 5 B
part F pins: 6 B
part G pins: 7 B
part H pins: 8 B
part I pins: 9 B
part J pins: 10 B
part K pins: 11 B
part L pins: 12 B
part M pins: 13 B
part N pins: 14 B
part O pins: 15 B
part P pins: 16 B
part Q pins: 17 B
part R pins: 18 B
part S pins: 19 B
part T pins: 20 B
part U pins: 21 B
part V pins: 22 B
part W pins: 23 B
part X pins: 24 B
part Y pins: 25 B
part Z pins: 26 B
part 27 pins: 27 B
part 28 pins: 28 B
part 29 pins: 29 B
part 30 pins: 30 B
part 31 pins: 31 B
part 32 pins: 32 B
part 33 pins: 33 B
part 34 pins: 34 B
part 35 pins: 35 B
part 36 pins: 36 B
part 37 pins: 37 B
part 38 pins: 38 B
part 39 pins: 39 B
part 40 pins: 40 B
part 41 pins: 41 B
part 42 pins: 42 B
part 43 pins: 43 B
part 44 pins: 44 B
part 45 pins: 45 B
part 46 pins: 46 B
part 47 pins: 47 B
part 48 pins: 48 B
part 49 pins: 49 B
part 50 pins: 50 B
part 51 pins: 51 B
part 52 pins: 52 B

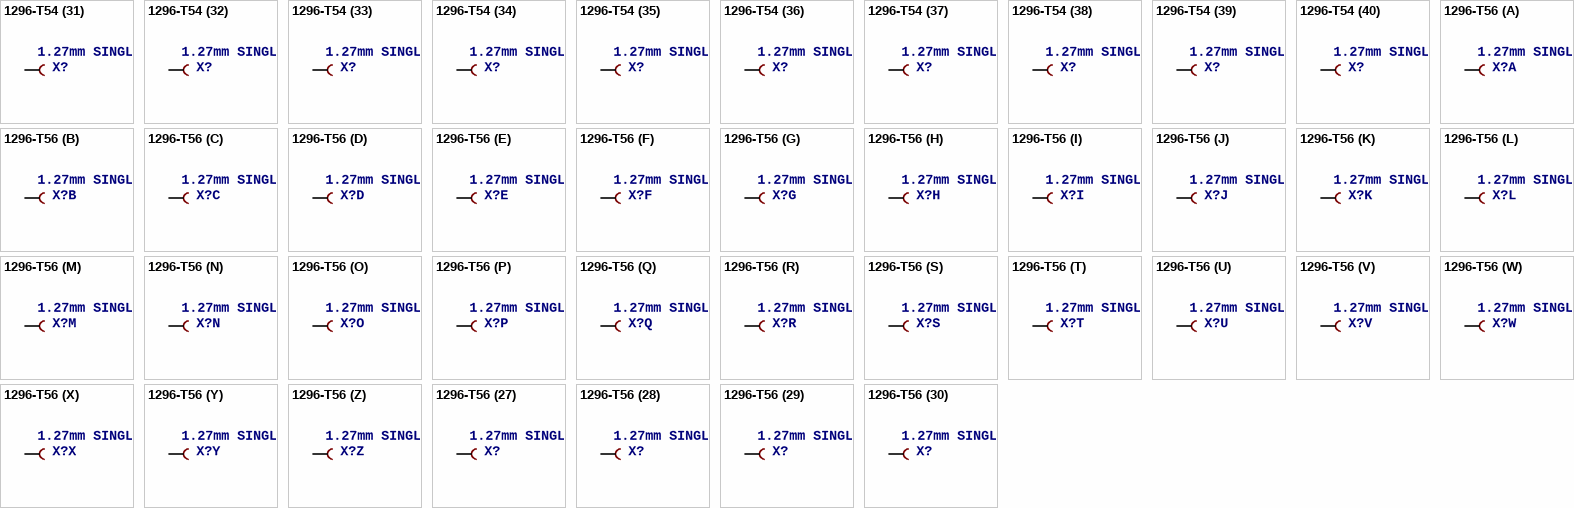
[diagram p18: symbols 1296-T54 to 1296-T56]

## 1296-T54
designator X?, comment 1.27mm SINGLE ROW FEMALE SOCKET   Source: http://www.leotronics.co.uk/Conexcon/Data%20Sheets/sec.%20A/1296ing.pdf
OC_FARNELL: unknown; OC_NEWARK: unknown
footprint 1296-54
part A pins: 1 B
part B pins: 2 B
part C pins: 3 B
part D pins: 4 B
part E pins: 5 B
part F pins: 6 B
part G pins: 7 B
part H pins: 8 B
part I pins: 9 B
part J pins: 10 B
part K pins: 11 B
part L pins: 12 B
part M pins: 13 B
part N pins: 14 B
part O pins: 15 B
part P pins: 16 B
part Q pins: 17 B
part R pins: 18 B
part S pins: 19 B
part T pins: 20 B
part U pins: 21 B
part V pins: 22 B
part W pins: 23 B
part X pins: 24 B
part Y pins: 25 B
part Z pins: 26 B
part 27 pins: 27 B
part 28 pins: 28 B
part 29 pins: 29 B
part 30 pins: 30 B
part 31 pins: 31 B
part 32 pins: 32 B
part 33 pins: 33 B
part 34 pins: 34 B
part 35 pins: 35 B
part 36 pins: 36 B
part 37 pins: 37 B
part 38 pins: 38 B
part 39 pins: 39 B
part 40 pins: 40 B
part 41 pins: 41 B
part 42 pins: 42 B
part 43 pins: 43 B
part 44 pins: 44 B
part 45 pins: 45 B
part 46 pins: 46 B
part 47 pins: 47 B
part 48 pins: 48 B
part 49 pins: 49 B
part 50 pins: 50 B
part 51 pins: 51 B
part 52 pins: 52 B
part 53 pins: 53 B
part 54 pins: 54 B

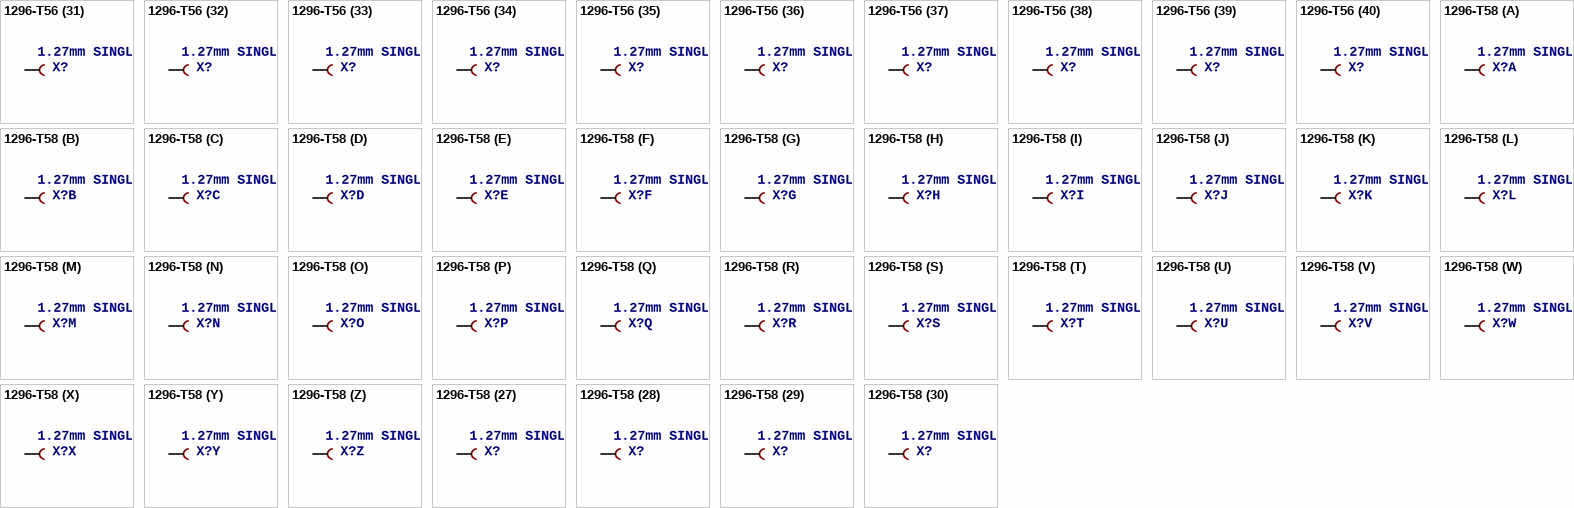
[diagram p19: symbols 1296-T56 to 1296-T58]

## 1296-T56
designator X?, comment 1.27mm SINGLE ROW FEMALE SOCKET   Source: http://www.leotronics.co.uk/Conexcon/Data%20Sheets/sec.%20A/1296ing.pdf
OC_FARNELL: unknown; OC_NEWARK: unknown
footprint 1296-56
part A pins: 1 B
part B pins: 2 B
part C pins: 3 B
part D pins: 4 B
part E pins: 5 B
part F pins: 6 B
part G pins: 7 B
part H pins: 8 B
part I pins: 9 B
part J pins: 10 B
part K pins: 11 B
part L pins: 12 B
part M pins: 13 B
part N pins: 14 B
part O pins: 15 B
part P pins: 16 B
part Q pins: 17 B
part R pins: 18 B
part S pins: 19 B
part T pins: 20 B
part U pins: 21 B
part V pins: 22 B
part W pins: 23 B
part X pins: 24 B
part Y pins: 25 B
part Z pins: 26 B
part 27 pins: 27 B
part 28 pins: 28 B
part 29 pins: 29 B
part 30 pins: 30 B
part 31 pins: 31 B
part 32 pins: 32 B
part 33 pins: 33 B
part 34 pins: 34 B
part 35 pins: 35 B
part 36 pins: 36 B
part 37 pins: 37 B
part 38 pins: 38 B
part 39 pins: 39 B
part 40 pins: 40 B
part 41 pins: 41 B
part 42 pins: 42 B
part 43 pins: 43 B
part 44 pins: 44 B
part 45 pins: 45 B
part 46 pins: 46 B
part 47 pins: 47 B
part 48 pins: 48 B
part 49 pins: 49 B
part 50 pins: 50 B
part 51 pins: 51 B
part 52 pins: 52 B
part 53 pins: 53 B
part 54 pins: 54 B
part 55 pins: 55 B
part 56 pins: 56 B

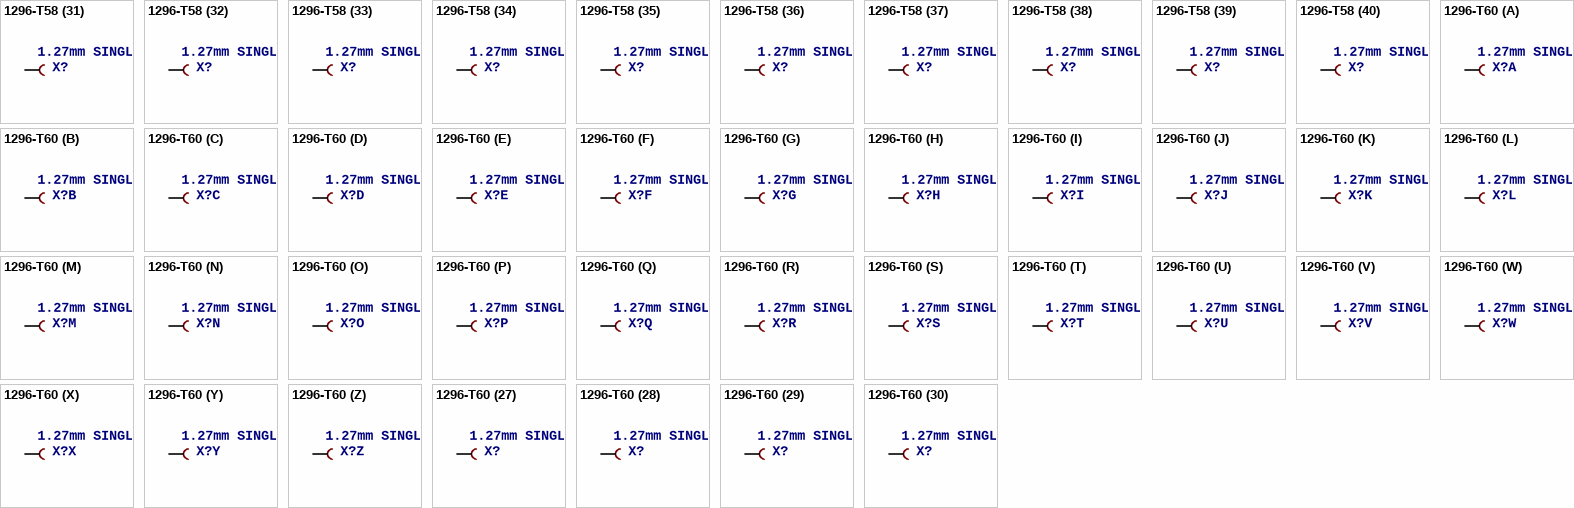
[diagram p20: symbols 1296-T58 to 1296-T60]

## 1296-T58
designator X?, comment 1.27mm SINGLE ROW FEMALE SOCKET   Source: http://www.leotronics.co.uk/Conexcon/Data%20Sheets/sec.%20A/1296ing.pdf
OC_FARNELL: unknown; OC_NEWARK: unknown
footprint 1296-58
part A pins: 1 B
part B pins: 2 B
part C pins: 3 B
part D pins: 4 B
part E pins: 5 B
part F pins: 6 B
part G pins: 7 B
part H pins: 8 B
part I pins: 9 B
part J pins: 10 B
part K pins: 11 B
part L pins: 12 B
part M pins: 13 B
part N pins: 14 B
part O pins: 15 B
part P pins: 16 B
part Q pins: 17 B
part R pins: 18 B
part S pins: 19 B
part T pins: 20 B
part U pins: 21 B
part V pins: 22 B
part W pins: 23 B
part X pins: 24 B
part Y pins: 25 B
part Z pins: 26 B
part 27 pins: 27 B
part 28 pins: 28 B
part 29 pins: 29 B
part 30 pins: 30 B
part 31 pins: 31 B
part 32 pins: 32 B
part 33 pins: 33 B
part 34 pins: 34 B
part 35 pins: 35 B
part 36 pins: 36 B
part 37 pins: 37 B
part 38 pins: 38 B
part 39 pins: 39 B
part 40 pins: 40 B
part 41 pins: 41 B
part 42 pins: 42 B
part 43 pins: 43 B
part 44 pins: 44 B
part 45 pins: 45 B
part 46 pins: 46 B
part 47 pins: 47 B
part 48 pins: 48 B
part 49 pins: 49 B
part 50 pins: 50 B
part 51 pins: 51 B
part 52 pins: 52 B
part 53 pins: 53 B
part 54 pins: 54 B
part 55 pins: 55 B
part 56 pins: 56 B
part 57 pins: 57 B
part 58 pins: 58 B

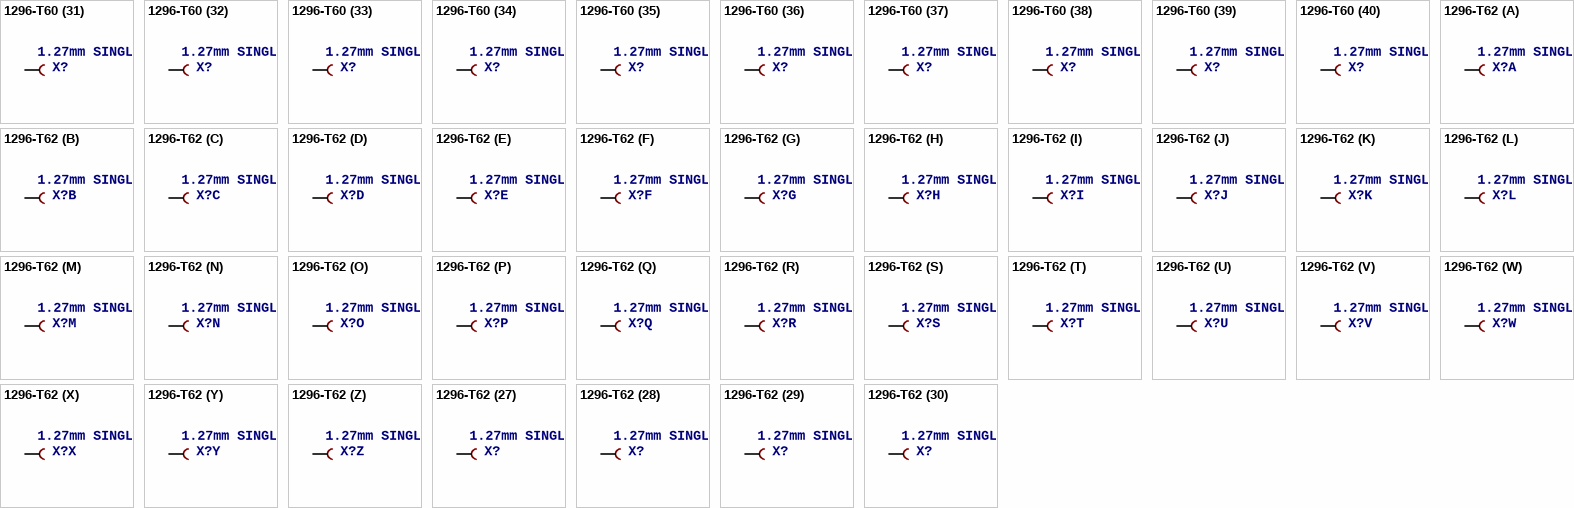
[diagram p21: symbols 1296-T60 to 1296-T62]

## 1296-T60
designator X?, comment 1.27mm SINGLE ROW FEMALE SOCKET   Source: http://www.leotronics.co.uk/Conexcon/Data%20Sheets/sec.%20A/1296ing.pdf
OC_FARNELL: unknown; OC_NEWARK: unknown
footprint 1296-60
part A pins: 1 B
part B pins: 2 B
part C pins: 3 B
part D pins: 4 B
part E pins: 5 B
part F pins: 6 B
part G pins: 7 B
part H pins: 8 B
part I pins: 9 B
part J pins: 10 B
part K pins: 11 B
part L pins: 12 B
part M pins: 13 B
part N pins: 14 B
part O pins: 15 B
part P pins: 16 B
part Q pins: 17 B
part R pins: 18 B
part S pins: 19 B
part T pins: 20 B
part U pins: 21 B
part V pins: 22 B
part W pins: 23 B
part X pins: 24 B
part Y pins: 25 B
part Z pins: 26 B
part 27 pins: 27 B
part 28 pins: 28 B
part 29 pins: 29 B
part 30 pins: 30 B
part 31 pins: 31 B
part 32 pins: 32 B
part 33 pins: 33 B
part 34 pins: 34 B
part 35 pins: 35 B
part 36 pins: 36 B
part 37 pins: 37 B
part 38 pins: 38 B
part 39 pins: 39 B
part 40 pins: 40 B
part 41 pins: 41 B
part 42 pins: 42 B
part 43 pins: 43 B
part 44 pins: 44 B
part 45 pins: 45 B
part 46 pins: 46 B
part 47 pins: 47 B
part 48 pins: 48 B
part 49 pins: 49 B
part 50 pins: 50 B
part 51 pins: 51 B
part 52 pins: 52 B
part 53 pins: 53 B
part 54 pins: 54 B
part 55 pins: 55 B
part 56 pins: 56 B
part 57 pins: 57 B
part 58 pins: 58 B
part 59 pins: 59 B
part 60 pins: 60 B

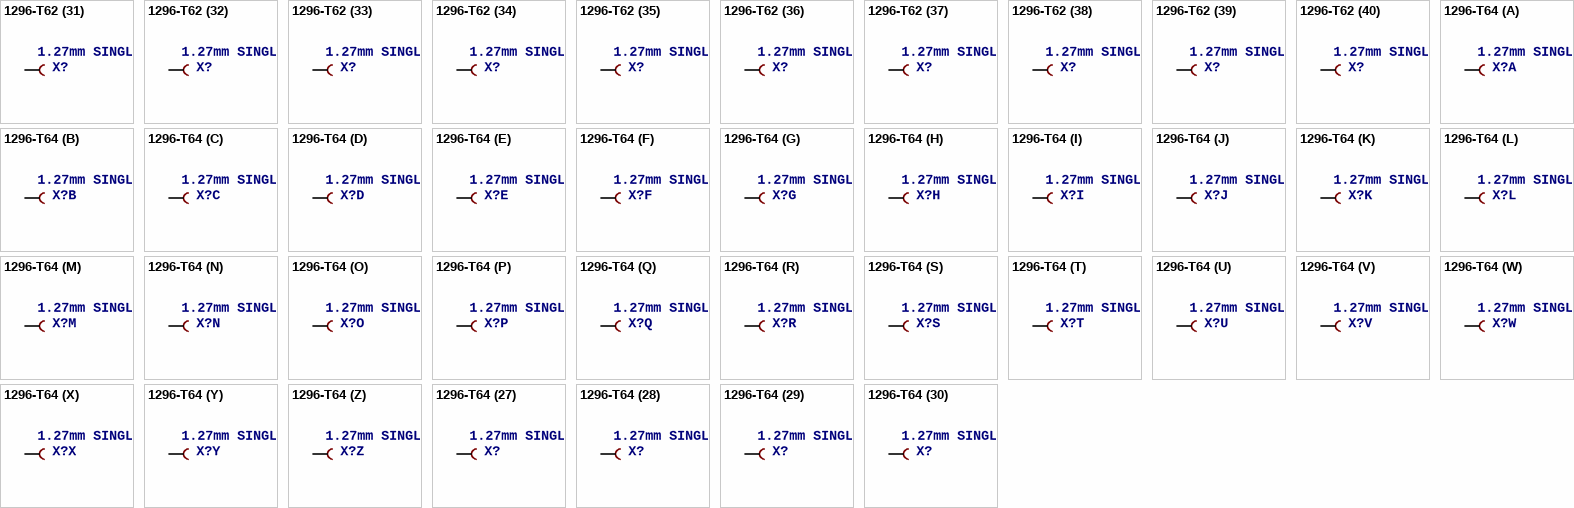
[diagram p22: symbols 1296-T62 to 1296-T64]

## 1296-T62
designator X?, comment 1.27mm SINGLE ROW FEMALE SOCKET   Source: http://www.leotronics.co.uk/Conexcon/Data%20Sheets/sec.%20A/1296ing.pdf
OC_FARNELL: unknown; OC_NEWARK: unknown
footprint 1296-62
part A pins: 1 B
part B pins: 2 B
part C pins: 3 B
part D pins: 4 B
part E pins: 5 B
part F pins: 6 B
part G pins: 7 B
part H pins: 8 B
part I pins: 9 B
part J pins: 10 B
part K pins: 11 B
part L pins: 12 B
part M pins: 13 B
part N pins: 14 B
part O pins: 15 B
part P pins: 16 B
part Q pins: 17 B
part R pins: 18 B
part S pins: 19 B
part T pins: 20 B
part U pins: 21 B
part V pins: 22 B
part W pins: 23 B
part X pins: 24 B
part Y pins: 25 B
part Z pins: 26 B
part 27 pins: 27 B
part 28 pins: 28 B
part 29 pins: 29 B
part 30 pins: 30 B
part 31 pins: 31 B
part 32 pins: 32 B
part 33 pins: 33 B
part 34 pins: 34 B
part 35 pins: 35 B
part 36 pins: 36 B
part 37 pins: 37 B
part 38 pins: 38 B
part 39 pins: 39 B
part 40 pins: 40 B
part 41 pins: 41 B
part 42 pins: 42 B
part 43 pins: 43 B
part 44 pins: 44 B
part 45 pins: 45 B
part 46 pins: 46 B
part 47 pins: 47 B
part 48 pins: 48 B
part 49 pins: 49 B
part 50 pins: 50 B
part 51 pins: 51 B
part 52 pins: 52 B
part 53 pins: 53 B
part 54 pins: 54 B
part 55 pins: 55 B
part 56 pins: 56 B
part 57 pins: 57 B
part 58 pins: 58 B
part 59 pins: 59 B
part 60 pins: 60 B
part 61 pins: 61 B
part 62 pins: 62 B